# Altium footprint library Electromechanics.PcbLib: 4 footprints
Each footprint in its own frame and in the unit in brackets; x right, y up, seen from the top. Pads: shape width x height; smd on the part's side, far side on the other; paste and mask are expansions set on the pad; w line width, h text height; cw(c..) or ccw(c..) is an arc to the next point about the centre after c.
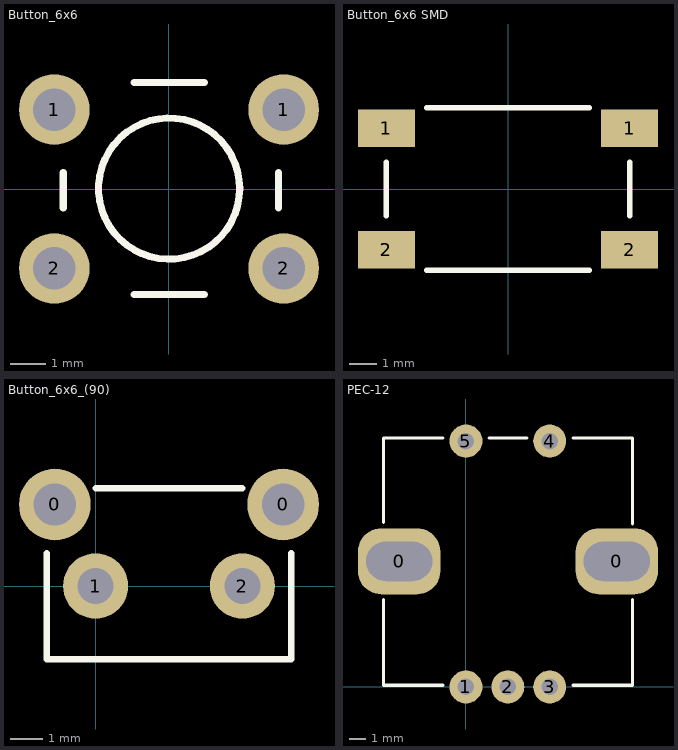
[diagram p0: the footprints below, top view; thin cyan lines are the x and y axes]

## Button_6x6 [mm]
height 5
pads (4):
  round 2 hole 1.2: 1(-3.25,2.25) 1(3.25,2.25) 2(-3.25,-2.25) 2(3.25,-2.25)
Top Overlay:
  circle w0.2: c0.004,0.012 r2
  lines w0.2: -2.996,-0.544 -2.996,0.472 ; -0.996,-2.988 1.004,-2.988 ; -0.996,3.012 1.004,3.012 ; 3.1,-0.544 3.1,0.472
3D body "кнопка_тактовая_6х6х1.STEP": height 4.5, standoff -0.9, extent -3.148,-2.957 3.252,3.043

## Button_6x6 SMD [mm]
height 9
pads (4):
  rect 2.1x1.4 smd: 1(-4.5,2.25) 1(4.5,2.25) 2(-4.5,-2.25) 2(4.5,-2.25)
Top Overlay:
  lines w0.2: -4.5,-1 -4.5,1 ; -3,-3 3,-3 ; -3,3 3,3 ; 4.5,-1 4.5,1
3D body "User Library-PTS645SL43SMTR92-LFS.STEP": height 4.3, standoff 0, extent -4.5,-3 4.5,3

## Button_6x6_(90) [mm]
height 7.4
pads (4):
  round 2.2 hole 1.3: 0(-1.25,2.5) 0(5.75,2.5)
  round 2 hole 1.1: 1(0,0) 2(4.5,0)
Top Overlay:
  lines w0.2: -1.5,1 -1.5,-2.25 6,-2.25 6,1 ; 0,3 4.5,3
3D body "User Library-SWITCH, TACTILE, RIGHT ANGLE, 12VDC, 50MA, 6_85MM ACTUATOR, WEALTH METAL TC-0244Z-1.STEP": height 7, standoff -4, extent -1.45,-6.85 5.95,4.15

## PEC-12 [mm]
pads (7):
  rrect70% 5x4 hole 2.4 slot 4 at 0 deg: 0(-4.05,7.625) 0(9.15,7.625)
  round 2 hole 1: 1(0,0) 2(2.54,0) 3(5.08,0) 4(5.08,14.922) 5(0,14.922)
Top Overlay:
  lines w0.2: -5,5.3 -5,0.1 -1.4,0.1 ; -5,10 -5,15.1 -1.4,15.1 ; 1.4,15.1 3.7,15.1 ; 6.5,0.1 10.1,0.1 10.1,5.3 ; 6.5,15.1 10.1,15.1 10.1,9.9
3D body "User Library-rotacijski enkoder.STEP": height 16.5, standoff -4.53, extent -4.964,0.12 10.044,15.12